# Altium schematic symbol library Fuse-EC-200.Schlib: 1 symbol
Pins are listed as number, name and electrical type; pins without a type are passive.

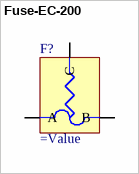
[diagram p0: symbol Fuse-EC-200]

## Fuse-EC-200
designator F?
EC-200 Chemical Fuse
pins: 1 A, 2 B, 3 C